# Altium footprint library Seeeduino XIAO KICAD.PcbLib: 1 footprints
Each footprint in its own frame and in the unit in brackets; x right, y up, seen from the top. Pads: shape width x height; smd on the part's side, far side on the other; paste and mask are expansions set on the pad; w line width, h text height; cw(c..) or ccw(c..) is an arc to the next point about the centre after c.
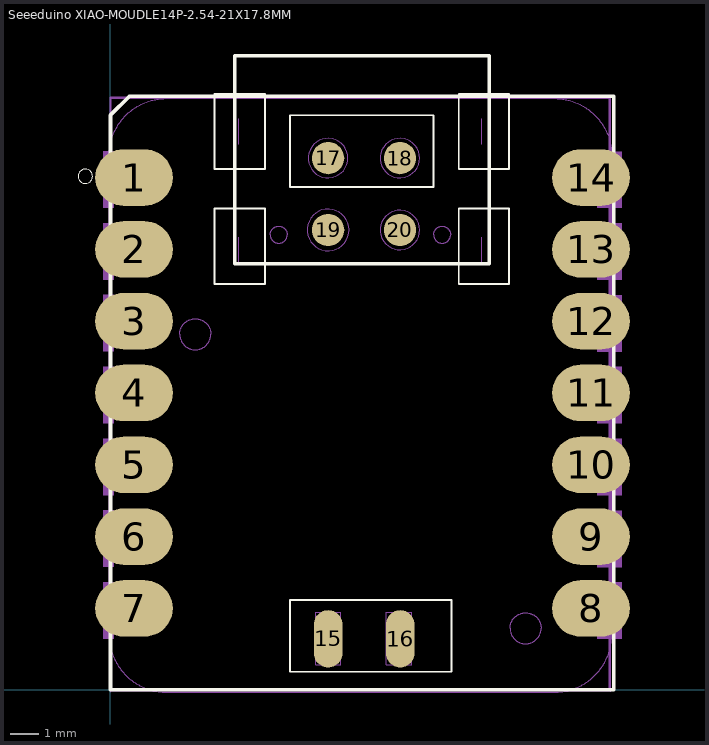
[diagram p0: the footprint, top view; thin cyan lines are the x and y axes]

## Seeeduino XIAO-MOUDLE14P-2.54-21X17.8MM [mil]
pads (20):
  rrect100% 108.2x78.7 smd: 1(32.8,713.3) 2(32.8,613.3) 3(32.8,513.3) 4(32.8,413.3) 5(32.8,313.3) 6(32.8,213.3) 7(32.8,113.3) 8(669.2,113.3) 9(669.2,213.3) 10(669.2,313.3) 11(669.2,413.3) 12(669.2,513.3) 13(669.2,613.3) 14(669.2,713.3)
  rrect100% 40x80 smd: 15(303.15,70.87) 16(403.54,70.87)
  round 45 smd: 17(303.1,740.32) 18(403.1,740.32) 19(303.1,640.32) 20(403.1,640.32)
F.SilkS:
  circle w0: c-35,715 r10
  lines w2.6: 145,564.9 215,564.9 215,670 145,670 145,564.9 ; 145,725 215,725 215,830 145,830 145,725 ; 250,25 475,25 475,125 250,125 250,25 ; 250,700 450,700 450,800 250,800 250,700 ; 485,564.9 555,564.9 555,670 485,670 485,564.9 ; 485,725 555,725 555,830 485,830 485,725
  lines w5: 173,882.8 173,593.3 527.3,593.3 527.3,882.8 173.2,882.8 ; 0,0 700.7,0 700.7,826.7 26.4,826.7 0,800.3 0,0
Dwgs.User:
  lines w2.6: 0,0 694.9,0 694.9,825 0,825 0,0
F.Fab:
  drawing of 35165 lines, arcs and shapes, not listed